# Altium footprint library si7149DP.PcbLib: 1 footprints
Each footprint in its own frame and in the unit in brackets; x right, y up, seen from the top. Pads: shape width x height; smd on the part's side, far side on the other; paste and mask are expansions set on the pad; w line width, h text height; cw(c..) or ccw(c..) is an arc to the next point about the centre after c.
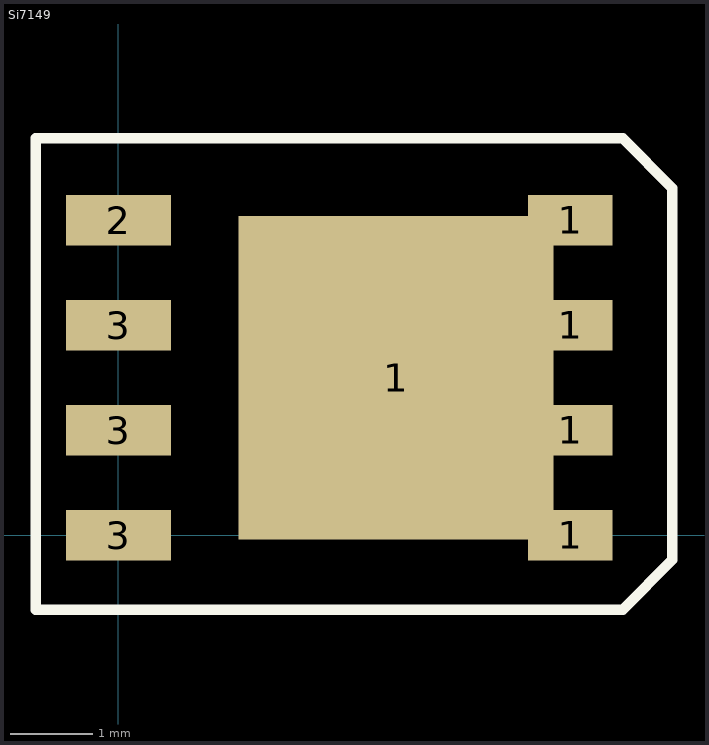
[diagram p0: the footprint, top view; thin cyan lines are the x and y axes]

## Si7149 [mm]
pads (9):
  rect 3.81x3.91 smd: 1(3.36,1.905)
  rect 1.02x0.61 smd: 1(5.465,0) 1(5.465,1.27) 1(5.465,2.54) 1(5.465,3.81)
  rect 1.27x0.61 smd: 2(0,3.81) 3(0,0) 3(0,1.27) 3(0,2.54)
Top Overlay:
  lines w0.127: -1,-0.9 -1,4.8 6.1,4.8 6.7,4.2 6.7,-0.3 6.1,-0.9 -1,-0.9
3D body: height 1.12, standoff 0, extent -0.45,-0.6 5.65,4.5